# EAGLE library part TEENSY36 (library teensy_v1)
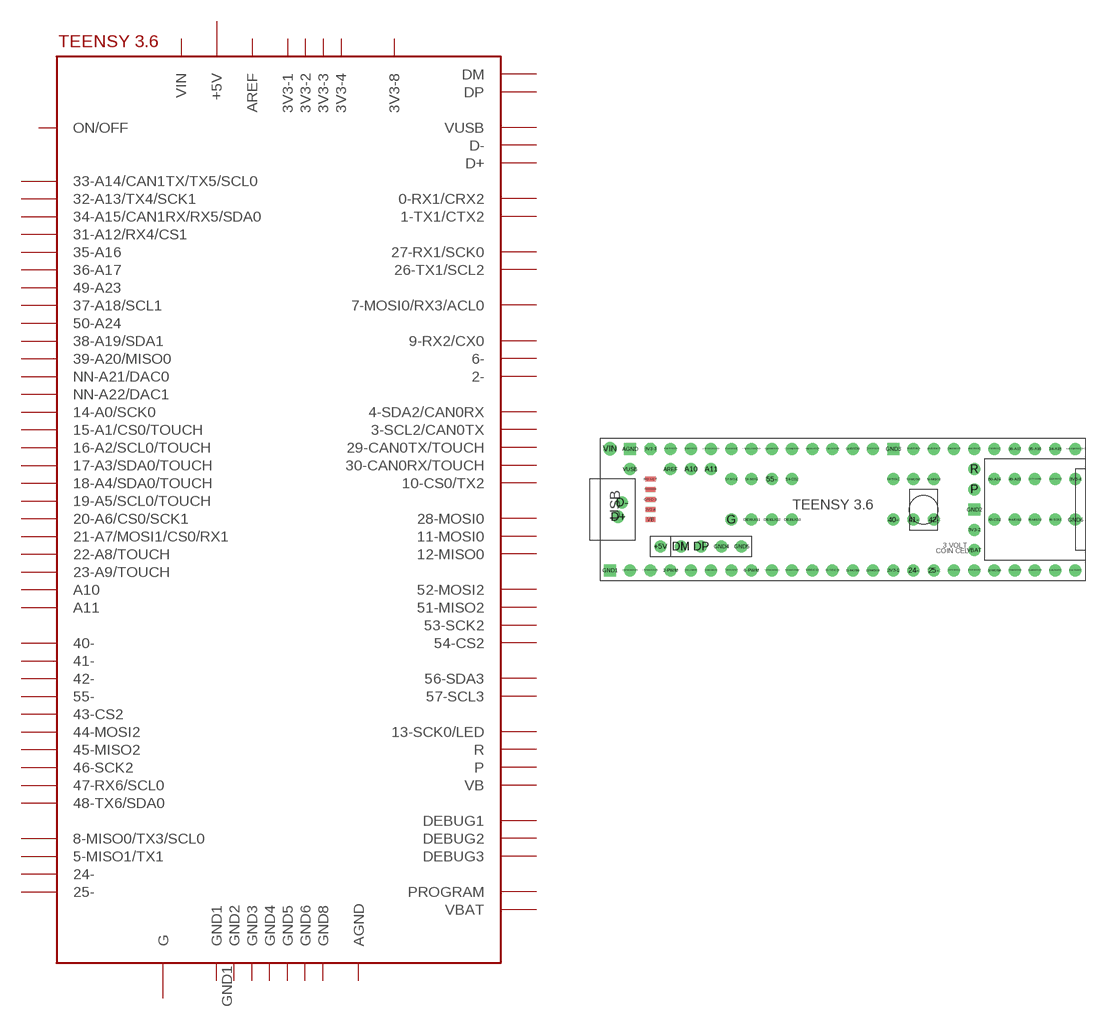
[diagram p1: symbol with the pads of TEENSY36; footprint TEENSY36]

Designator prefix -

## TEENSY36  [TEENSY36]
0-RX1/MOSI1/TOUCH  0-RX1/CRX2
1-TX1/MISO1/TOUCH  1-TX1/CTX2
2-PWM  2-
3-SCL2/CAN0TX  3-SCL2/CAN0TX
3V3-1  3V3-1
3V3-2  3V3-2
3V3-3  3V3-3
3V3-4  3V3-4
3V3-8  3V3-8
4-SDA2/CANORX  4-SDA2/CAN0RX
5-MISO1/TX1  5-MISO1/TX1
6-PWM  6-
7-RX3/MOSI0/SCL0  7-MOSI0/RX3/ACL0
8-TX3/MISO0/SDA0  8-MISO0/TX3/SCL0
9-RX2/CS0  9-RX2/CX0
10-TX2/CS0  10-CS0/TX2
11-MOSI0  11-MOSI0
12-MISO0  12-MISO0
13-SCK0/LED  13-SCK0/LED
14-A0/SCK0  14-A0/SCK0
15-A1/CS0/TOUCH  15-A1/CS0/TOUCH
16-A2/SCL0/TOUCH  16-A2/SCL0/TOUCH
17-A3/SDA0/TOUCH  17-A3/SDA0/TOUCH
18-A4/SDA0/TOUCH  18-A4/SDA0/TOUCH
19-A5/SCL0/CS0/TOUCH  19-A5/SCL0/TOUCH
20-A6/CS0/SCK1  20-A6/CS0/SCK1
21-A7/CS0/MOSI1/RX1  21-A7/MOSI1/CS0/RX1
22-A8/TOUCH  22-A8/TOUCH
23-A9/TOUCH  23-A9/TOUCH
24-  24-
25-  25-
26-TX1/SCL1  26-TX1/SCL2
27-RX1/SCK0  27-RX1/SCK0
28-MOSI0  28-MOSI0
29-CAN0TX/TOUCH  29-CAN0TX/TOUCH
30-CAN0RX/TOUCH  30-CAN0RX/TOUCH
31-A12/RX4/CS1  31-A12/RX4/CS1
32-A13/TX4/SCK1  32-A13/TX4/SCK1
33-A14/CAN1TX/SCL0/TX5  33-A14/CAN1TX/TX5/SCL0
34-A15  34-A15/CAN1RX/RX5/SDA0
35-A16  35-A16
36-A17  36-A17
37-A18/SCL1  37-A18/SCL1
38-A19/SDA1  38-A19/SDA1
39-A20/MISO0  39-A20/MISO0
40-  40-
41-  41-
42-  42-
43-CS2  43-CS2
44-MOSI2  44-MOSI2
45-MISO2  45-MISO2
46-SCK2  46-SCK2
47-RX6/SCL0  47-RX6/SCL0
48-TX6/SDA0  48-TX6/SDA0
49-A23  49-A23
50-A24  50-A24
51-MISO2  51-MISO2
52-MOSI2  52-MOSI2
53-SCK2  53-SCK2
54-CS2  54-CS2
55-  55-
56-SDA3  56-SDA3
57-SCL3  57-SCL3
+5V  +5V
A10  A10
A11  A11
AGND  AGND
AREF  AREF
D+  D+
D-  D-
DEBUG1  DEBUG1
DEBUG2  DEBUG2
DEBUG3  DEBUG3
DM  DM
DP  DP
G  G
GND1  GND2
GND2  GND3
GND3  GND4
GND4  GND5
GND5  GND6
GND6  GND8
GND-8  GND1
NN-A21/DAC0  NN-A21/DAC0
NN-A22/DAC1  NN-A22/DAC1
P  ON/OFF
PROGRAM  P
R  PROGRAM
RESET  R
VB  VB
VBAT  VBAT
VIN  VIN
VUSB  VUSB

## Footprint TEENSY36 (pad centres in mm)
drill 1: 0-RX1/MOSI1/TOUCH -30.48,-7.62; 1-TX1/MISO1/TOUCH -27.94,-7.62; 2-PWM -25.4,-7.62; 3-SCL2/CAN0TX -22.86,-7.62; 3V3-1 2.54,-7.62; 3V3-2 12.7,-2.54; 3V3-4 25.4,3.81; 4-SDA2/CANORX -20.32,-7.62; 5-MISO1/TX1 -17.78,-7.62; 6-PWM -15.24,-7.62; 7-RX3/MOSI0/SCL0 -12.7,-7.62; 8-TX3/MISO0/SDA0 -10.16,-7.62; 9-RX2/CS0 -7.62,-7.62; 10-TX2/CS0 -5.08,-7.62; 11-MOSI0 -2.54,-7.62; 12-MISO0 0,-7.62; 13-SCK0/LED 0,7.62; 14-A0/SCK0 -2.54,7.62; 15-A1/CS0/TOUCH -5.08,7.62; 16-A2/SCL0/TOUCH -7.62,7.62; 17-A3/SDA0/TOUCH -10.16,7.62; 18-A4/SDA0/TOUCH -12.7,7.62; 19-A5/SCL0/CS0/TOUCH -15.24,7.62; 20-A6/CS0/SCK1 -17.78,7.62; 21-A7/CS0/MOSI1/RX1 -20.32,7.62; 22-A8/TOUCH -22.86,7.62; 23-A9/TOUCH -25.4,7.62; 24- 5.08,-7.62; 25- 7.62,-7.62; 26-TX1/SCL1 10.16,-7.62; 27-RX1/SCK0 12.7,-7.62; 28-MOSI0 15.24,-7.62; 29-CAN0TX/TOUCH 17.78,-7.62; 30-CAN0RX/TOUCH 20.32,-7.62; 31-A12/RX4/CS1 22.86,-7.62; 32-A13/TX4/SCK1 25.4,-7.62; 33-A14/CAN1TX/SCL0/TX5 25.4,7.62; 34-A15 22.86,7.62; 35-A16 20.32,7.62; 36-A17 17.78,7.62; 37-A18/SCL1 15.24,7.62; 38-A19/SDA1 12.7,7.62; 39-A20/MISO0 10.16,7.62; 40- 2.54,-1.27; 41- 5.08,-1.27; 42- 7.62,-1.27; 43-CS2 15.24,-1.27; 44-MOSI2 17.78,-1.27; 45-MISO2 20.32,-1.27; 46-SCK2 22.86,-1.27; 47-RX6/SCL0 22.86,3.81; 48-TX6/SDA0 20.32,3.81; 49-A23 17.78,3.81; 50-A24 15.24,3.81; 51-MISO2 7.62,3.81; 52-MOSI2 5.08,3.81; 53-SCK2 2.54,3.81; 54-CS2 -10.16,3.81; 55- -12.7,3.81; 56-SDA3 -15.24,3.81; 57-SCL3 -17.78,3.81; +5V -26.67,-4.62; A10 -22.86,5.08; A11 -20.32,5.08; AREF -25.4,5.08; D+ -32.004,-0.9; D- -31.496,0.9; DEBUG1 -15.24,-1.27; DEBUG2 -12.7,-1.27; DEBUG3 -10.16,-1.27; DM -24.13,-4.62; DP -21.59,-4.62; G -17.78,-1.27; GND4 -19.05,-4.62; GND5 -16.51,-4.62; GND6 25.4,-1.27; NN-A21/DAC0 7.62,7.62; NN-A22/DAC1 5.08,7.62; P 12.7,2.54; R 12.7,5.08; VBAT 12.7,-5.08; VUSB -30.48,5.08
drill 1 octagon: 3V3-3 -27.94,7.62
smd 1.27 x 0.635: 3V3-8 -27.94,0; GND-8 -27.94,1.27; PROGRAM -27.94,2.54; RESET -27.94,3.81; VB -27.94,-1.27
drill 1 square: AGND -30.48,7.62; GND1 -33.02,-7.62; GND2 12.7,0; GND3 2.54,7.62
drill 1 pad 1.676: VIN -33.02,7.62